# Altium schematic symbol library transformator.SchLib: 34 symbols
Pins are listed as number, name and electrical type; pins without a type are passive.

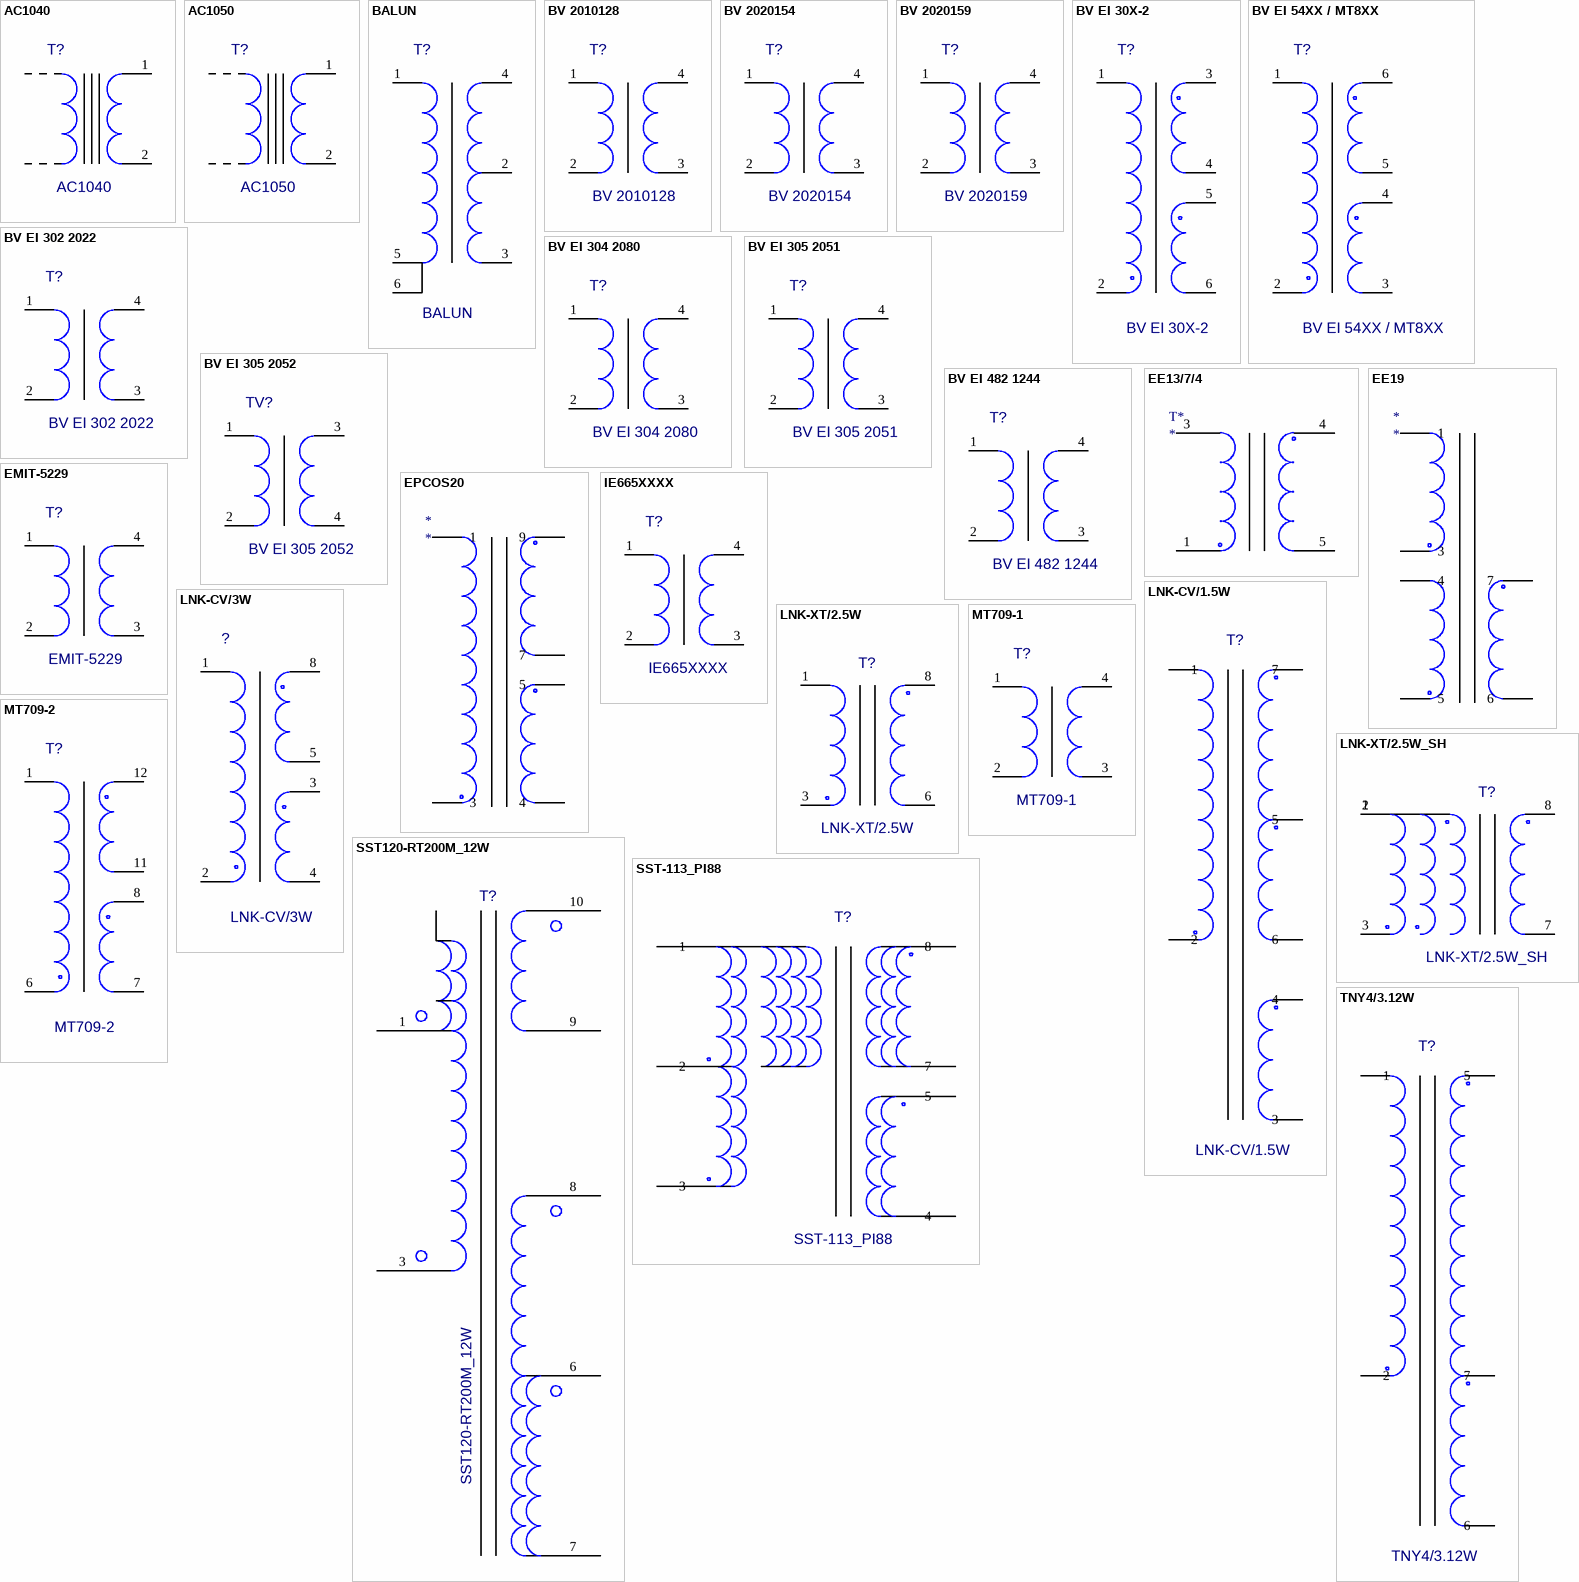
[diagram p0: symbols AC1040 to TNY4/3.12W]

## AC1040
designator T?
Value: *
footprint TALEMA AC10(40,50)_AC1040(Primary)
pins: 1 A1, 2 A2

## AC1050
designator T?
Value: *
footprint TALEMA AC10(40,50)_AC1050(Primary)
pins: 1 A1, 2 A2

## BALUN
designator T?
Value: *
footprint BALUN
pins: 1, 2, 3, 4, 5, 6

## BV 2010128
designator T?
Value: *
footprint BV 2020159
pins: 1 A1, 2 A2, 3 A3, 4 A4

## BV 2020154
designator T?
Value: *
footprint BV 2020159
pins: 1 A1, 2 A2, 3 A3, 4 A4

## BV 2020159
designator T?
Value: *
footprint BV 2020159
pins: 1 A1, 2 A2, 3 A3, 4 A4

## BV EI 30X-2
designator T?
Value: *
footprint BV EI 30X-2
pins: 1, 2, 3, 4, 5, 6

## BV EI 54XX / MT8XX
designator T?
Value: *
footprint BV EI 54XX / MT8XX
pins: 1 A1, 2 A7, 3 A8, 4 A9, 5 A13, 6 A14

## BV EI 302 2022
designator T?
Value: *
footprint BV EI 30X
pins: 1 A1, 2 A2, 3 A3, 4 A4

## BV EI 304 2080
designator T?
Value: *
footprint BV EI 30X
pins: 1 A1, 2 A2, 3 A3, 4 A4

## BV EI 305 2051
designator T?
Value: *
footprint BV EI 30X
pins: 1 A1, 2 A2, 3 A3, 4 A4

## BV EI 305 2052
designator TV?
Value: *
footprint BV EI 30X_BV EI 305 2052(Primary)
pins: 1, 2 5, 3 7, 4 9

## BV EI 482 1244
designator T?
Value: *
footprint BV IE 48X
pins: 1 A1, 2 A2, 3 A3, 4 A4

## EE13/7/4
designator T*
footprint EE13
footprint EE13/7/4 vertical
pins: 1, 3, 4, 5

## EE19
designator *
footprint EE19 (7pin)
pins: 1, 3, 4, 5, 6, 7

## EMIT-5229
designator T?
Value: *
footprint EMIT-5229
pins: 1 A1, 2 A2, 3 A3, 4 A4

## EPCOS20
designator *
footprint P2015_EPCOS
pins: 1, 3, 4, 5, 7, 9

## IE665XXXX
designator T?
Value: *
footprint IE665XXXX
pins: 1 A1, 2 A2, 3 A3, 4 A4, 5 hidden, 6 hidden, 7 hidden, 8 hidden

## LNK-CV/1.5W
designator T?
Value: *
footprint EFD 15/8/5
pins: 1, 2, 3, 4, 5 7, 6, 7 5, 8 hidden

## LNK-CV/3W
designator ?
Value: *
footprint B66414B6008T001
pins: 1, 2, 3, 4, 5, 6 hidden, 7 hidden, 8

## LNK-XT/2.5W
designator T?
Value: *
footprint EF-12.6
pins: 1, 2 hidden, 3, 4 hidden, 5 hidden, 6, 7 hidden, 8

## LNK-XT/2.5W_SH
designator T?
Value: *
footprint E 16/8/5
pins: 1, 2, 3, 4 hidden, 5 hidden, 6 hidden, 7, 8

## MT709-1
designator T?
Value: *
footprint MT7XX-X
pins: 1 A1, 2 A2, 3 A3, 4 A4

## MT709-2
designator T?
Value: *
footprint MT7XX-21_MT709-2(Primary)
pins: 1 A1, 6 A2, 7 A3, 8 A4, 11 A5, 12 A6

## SST120-RT200M_12W
designator T?
Value: *
footprint P2015_EPCOS
pins: 1 A1, 2 hidden, 3 A2, 4 hidden, 5 hidden, 6 A4, 7 A3, 8 A5, 9 A6, 10 A7

## SST-113_PI88
designator T?
Value: *
footprint EER-28LH
pins: 1, 2, 3, 4, 5, 6 hidden, 7, 8, 9 hidden, 10 hidden, 11 hidden, 12 hidden

## TNY4/3.12W
designator T?
Value: *
footprint EFD 15/8/5
pins: 1, 2, 5, 6, 7

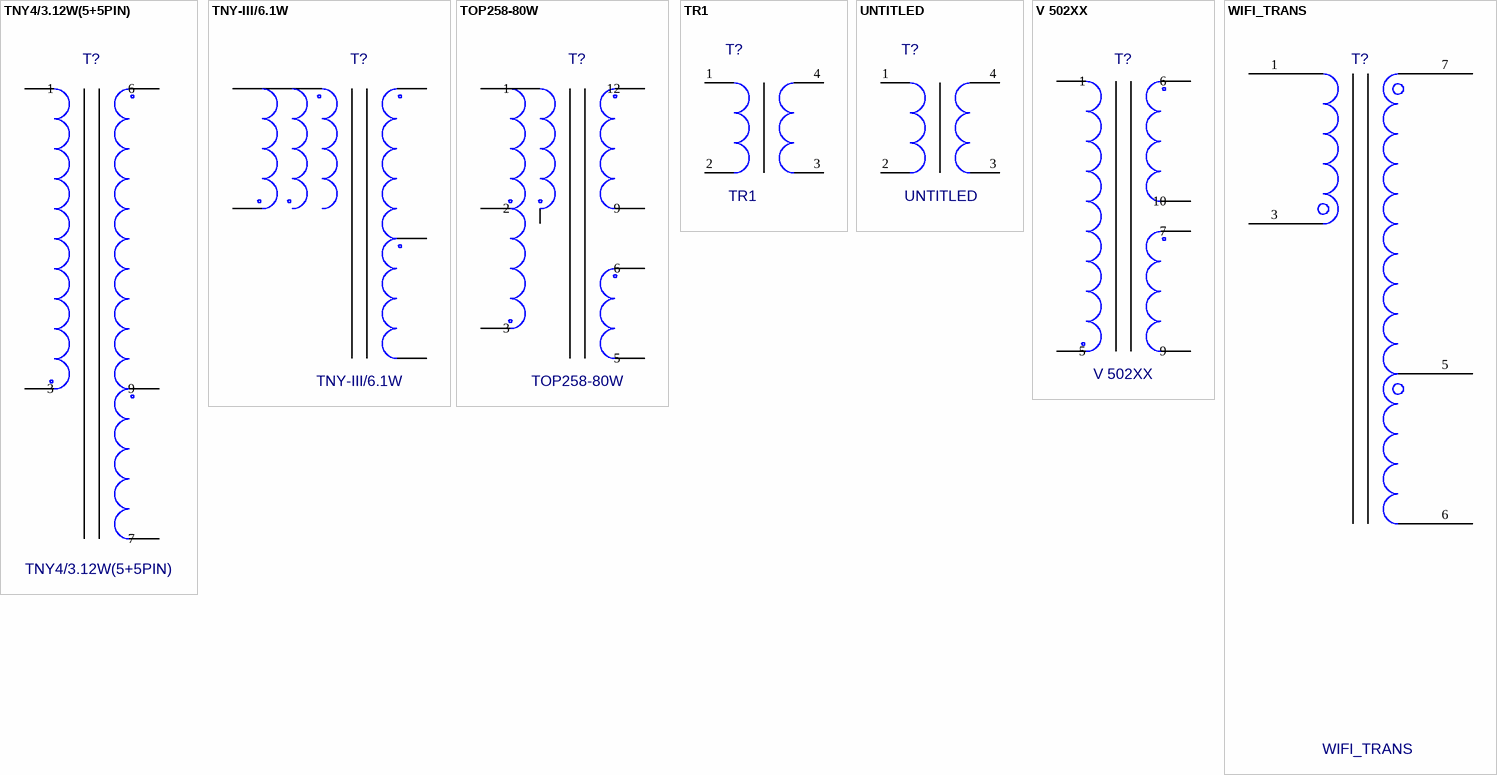
[diagram p1: symbols TNY4/3.12W(5+5PIN) to WIFI_TRANS]

## TNY4/3.12W(5+5PIN)
designator T?
Value: *
footprint EFD-15(5+5PIN)
pins: 1, 2 hidden, 3, 4 hidden, 5 hidden, 6, 7, 8 hidden, 9, 10 hidden

## TNY-III/6.1W
designator T?
Value: *
footprint E 16/8/5
pins: 1, 2, 3, 4 hidden, 5, 6, 7, 8 hidden

## TOP258-80W
designator T?
Value: *
footprint B66359X1014T001
pins: 1, 2, 3, 4 hidden, 5, 6, 7 hidden, 8 hidden, 9, 10 hidden, 11 hidden, 12, 13 hidden, 14 hidden

## TR1
designator T?
Value: *
footprint TR1
pins: 1 A1, 2 A2, 3 A3, 4 A4

## UNTITLED
designator T?
Value: *
footprint BV EI 30X
pins: 1 A1, 2 A2, 3 A3, 4 A4

## V 502XX
designator T?
Value: *
footprint V 502XX_V 502XX(Primary)
pins: 1, 5, 6, 7, 9, 10

## WIFI_TRANS
designator T?
Value: *
footprint EF-12.6
pins: 1, 2 hidden, 3, 4 hidden, 5 2, 6 3, 7 4, 8 hidden